# Altium schematic symbol library lesson10.SchLib: 2 symbols
Pins are listed as number, name and electrical type; pins without a type are passive.

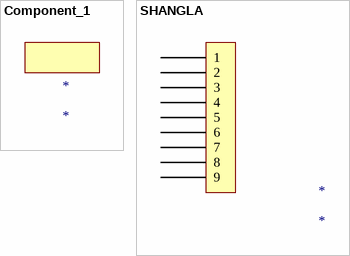
[diagram p0: symbols Component_1 to SHANGLA]

## Component_1
designator *

## SHANGLA
designator *
pins: 0 1, 1 2, 2 3, 3 4, 4 5, 5 6, 6 7, 7 8, 8 9